# EAGLE library part NV08C-CSM (library laforge)
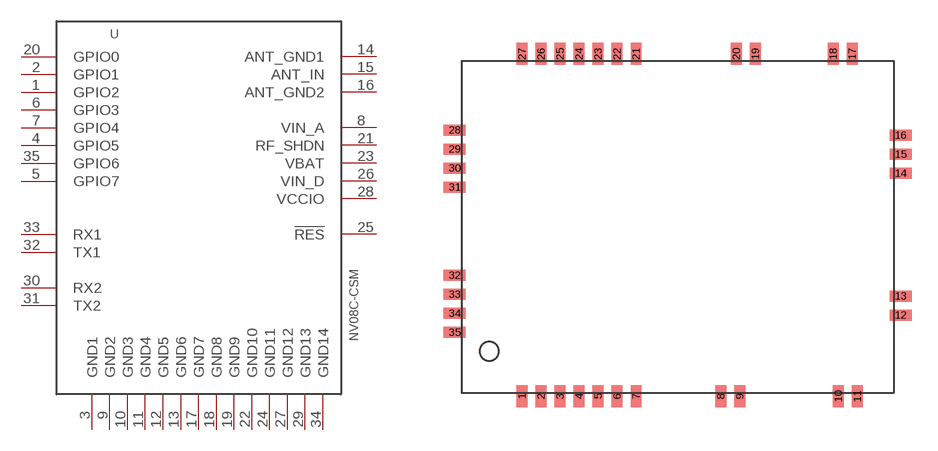
[diagram p8: symbol with the pads of NV08C-CSM; footprint NV08C-CSM]

Designator prefix -

## NV08C-CSM  [NV08C-CSM]
1  GPIO2
2  GPIO1
3  GND1
4  GPIO5
5  GPIO7
6  GPIO3
7  GPIO4
8  VIN_A  pwr
9  GND2
10  GND3
11  GND4
12  GND5
13  GND6
14  ANT_GND1
15  ANT_IN  in
16  ANT_GND2
17  GND7
18  GND8
19  GND9
20  GPIO0
21  RF_SHDN  out
22  GND10
23  VBAT  in
24  GND11
25  !RES  in
26  VIN_D  pwr
27  GND12
28  VCCIO  pwr
29  GND13
30  RX2  in
31  TX2  out
32  TX1  out
33  RX1  in
34  GND14
35  GPIO6

## Footprint NV08C-CSM (pad centres in mm)
smd 0.635 x 1.27: 1 3.9,-19.8; 2 5,-19.8; 3 6.1,-19.8; 4 7.2,-19.8; 5 8.3,-19.8; 6 9.4,-19.8; 7 10.5,-19.8; 8 15.4,-19.8; 9 16.5,-19.8; 10 22.2,-19.8; 11 23.3,-19.8; 17 23,0; 18 21.9,0; 19 17.4,0; 20 16.3,0; 21 10.5,0; 22 9.4,0; 23 8.3,0; 24 7.2,0; 25 6.1,0; 26 5,0; 27 3.9,0
smd 1.27 x 0.635: 12 25.8,-15.1; 13 25.8,-14; 14 25.8,-6.9; 15 25.8,-5.8; 16 25.8,-4.7; 28 0,-4.4; 29 0,-5.5; 30 0,-6.6; 31 0,-7.7; 32 0,-12.8; 33 0,-13.9; 34 0,-15; 35 0,-16.1